# EAGLE library part PJRC_SD_ADAPTER (library SD_Cards)
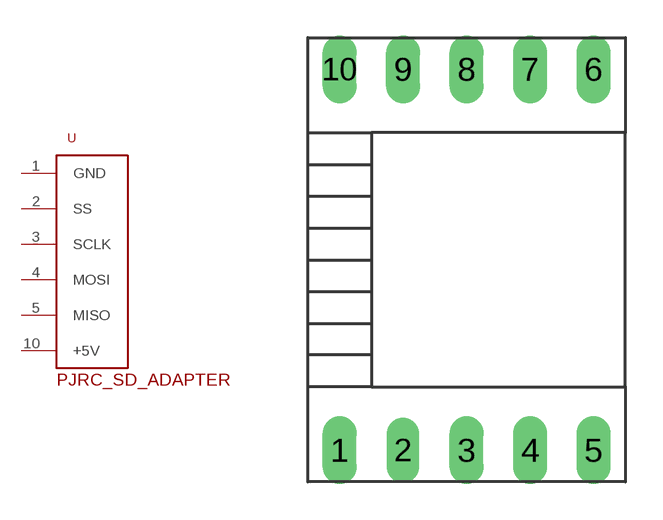
[diagram p0: symbol with the pads of PJRC_SD_CARD_ADAPTER; footprint PJRC_SD_CARD_ADAPTER]

Designator prefix -

## PJRC_SD_ADAPTER  [PJRC_SD_CARD_ADAPTER]
1  GND
2  SS
3  SCLK
4  MOSI
5  MISO
10  +5V

## Footprint PJRC_SD_CARD_ADAPTER (pad centres in mm)
drill 0.85 long: 1 0,0; 3 5.08,0; 4 7.62,0; 5 10.16,0; 6 10.16,15.24; 7 7.62,15.24; 8 5.08,15.24; 9 2.54,15.24; 10 0,15.24
drill 0.8 long: 2 2.54,0